# EAGLE library part REF5045 (library LEMS)
4.5V Series Reference by TI
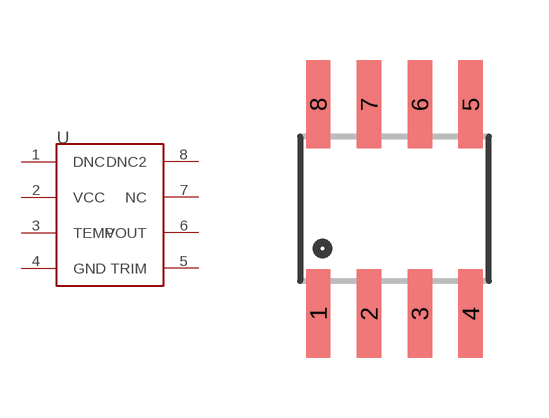
[diagram p2: symbol with the pads of SOIC8; footprint SOIC8]

Designator prefix -

## REF5045S  [SOIC8]
1  DNC  nc
2  VCC  pwr
3  TEMP
4  GND  pwr
5  TRIM
6  VOUT  out
7  NC  nc
8  DNC2  nc

## Footprint SOIC8 (pad centres in mm)
8-Pin Small Outline Integrated Circuit
smd 0.61 x 2.21: 1 -1.905,-2.616; 2 -0.635,-2.616; 3 0.635,-2.616; 4 1.905,-2.616; 5 1.905,2.616; 6 0.635,2.616; 7 -0.635,2.616; 8 -1.905,2.616